# Altium schematic symbol library CurrentSensor.SchLib: 1 symbol
Pins are listed as number, name and electrical type; pins without a type are passive.

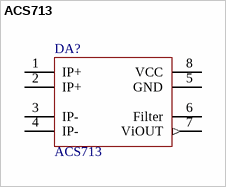
[diagram p0: symbol ACS713]

## ACS713
designator DA?
footprint SOIC127P600X175-8N (SOIC, 8-Leads, Body 4,90x3,90mm, Pitch 1,27mm, IPC Medium Density)
pins: 1 IP+ (power), 2 IP+ (power), 3 IP- (power), 4 IP- (power), 5 GND (power), 6 Filter, 7 ViOUT (out), 8 VCC (power)